# Altium schematic symbol library MF_Displays.SCHLIB: 1 symbol
Pins are listed as number, name and electrical type; pins without a type are passive.

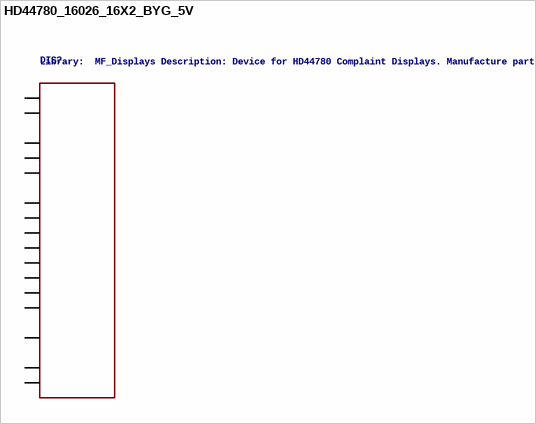
[diagram p0: symbol HD44780_16026_16X2_BYG_5V]

## HD44780_16026_16X2_BYG_5V
designator DIS?, comment Library:  MF_Displays Description: Device for HD44780 Complaint Displays. Manufacture part number (MFG#) can be added via Attributes.
HOUSEPART: NO; MPN: ERM1602-6; GateName_1: G$1; DeviceName: _16026_16X2_BYG_5V; POPULATE: 0; SymbolName_1: HD44780; LibraryName: MF_Displays; DeviceSetName: HD44780; URL: http://www.buydisplay.com/default/character-2x16-lcd-display-modules-hd44780-controller-black-on-yg
footprint 16026-16X2
pins: P$1 VSS, P$2 VDD, P$3 CONTRAST, P$4 RS, P$5 R/W, P$6 E, P$7 DB0, P$8 DB1, P$9 DB2, P$10 DB3, P$11 DB4, P$12 DB5, P$13 DB6, P$14 DB7, P$15 LED_A, P$16 LED_C